# EAGLE library part 4009 (library 40xxDIN)
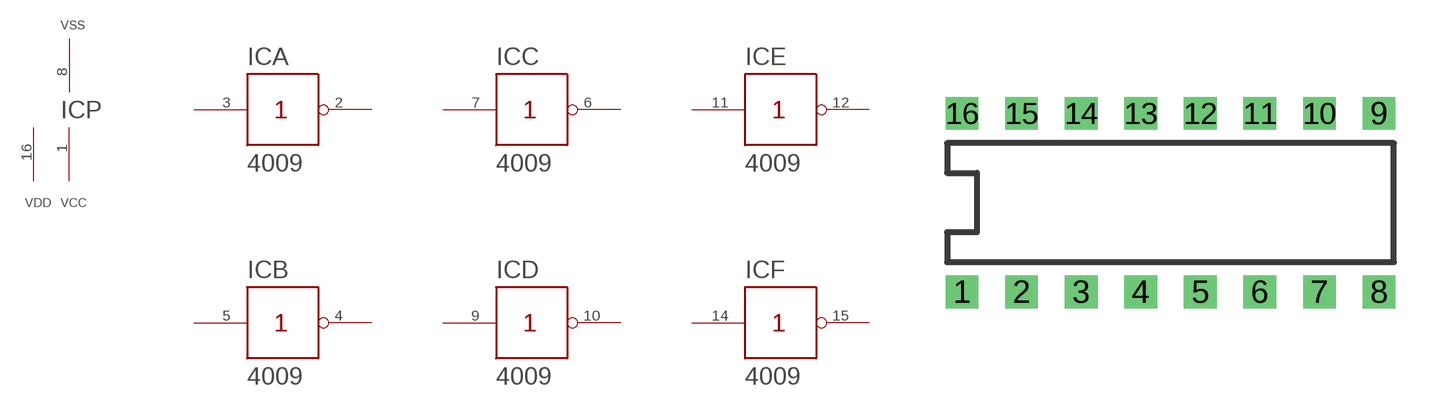
[diagram p3: symbol with the pads of DIL16; footprint DIL16]

Designator prefix IC; gates A=4009 B=4009 C=4009 D=4009 E=4009 F=4009 P=PWR+VCC

## 4009  [DIL16]
1  P:VCC  pwr
2  A:O  out
3  A:I  in
4  B:O  out
5  B:I  in
6  C:O  out
7  C:I  in
8  P:VSS  pwr
9  D:I  in
10  D:O  out
11  E:I  in
12  E:O  out
14  F:I  in
15  F:O  out
16  P:VDD  pwr

## Footprint DIL16 (pad centres in mm)
drill 0.8 pad 1.397 square: 1 0,0; 2 2.54,0; 3 5.08,0; 4 7.62,0; 5 10.16,0; 6 12.7,0; 7 15.24,0; 8 17.78,0; 9 17.78,7.62; 10 15.24,7.62; 11 12.7,7.62; 12 10.16,7.62; 13 7.62,7.62; 14 5.08,7.62; 15 2.54,7.62; 16 0,7.62